# EAGLE library part DMP3036SSD (library KVB-transistors)
MOSFET 2P-CH 30V 10.6A 8-SO
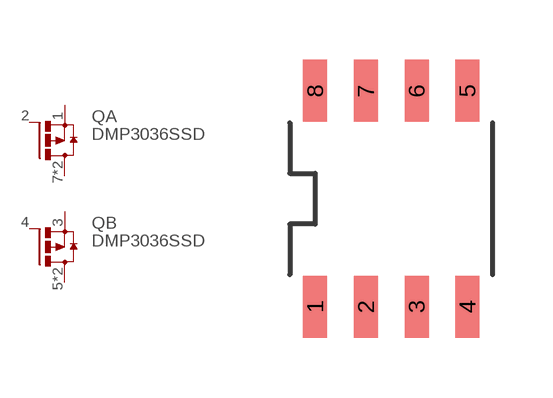
[diagram p0: symbol with the pads of DMP3036SSD; footprint DMP3036SSD]

Designator prefix Q; gates A=P-MOSFET B=P-MOSFET

## DMP3036SSD (MAN-PART_NUM: DMP3036SSD; MANUFACTURER: Diodes Inc.)  [DMP3036SSD]
1  A:S  pas
2  A:G  pas
3  B:S  pas
4  B:G  pas
5  B:D  pas
6  B:D  pas
7  A:D  pas
8  A:D  pas

## Footprint DMP3036SSD (pad centres in mm)
smd 0.6 x 1.55: 1 -1.905,-2.7; 2 -0.635,-2.7; 3 0.635,-2.7; 4 1.905,-2.7; 5 1.905,2.7; 6 0.635,2.7; 7 -0.635,2.7; 8 -1.905,2.7